# Altium integrated library Linear Technology Operational Amplifiers (LT1000).IntLib: 2280 symbols (part 43 of 79)
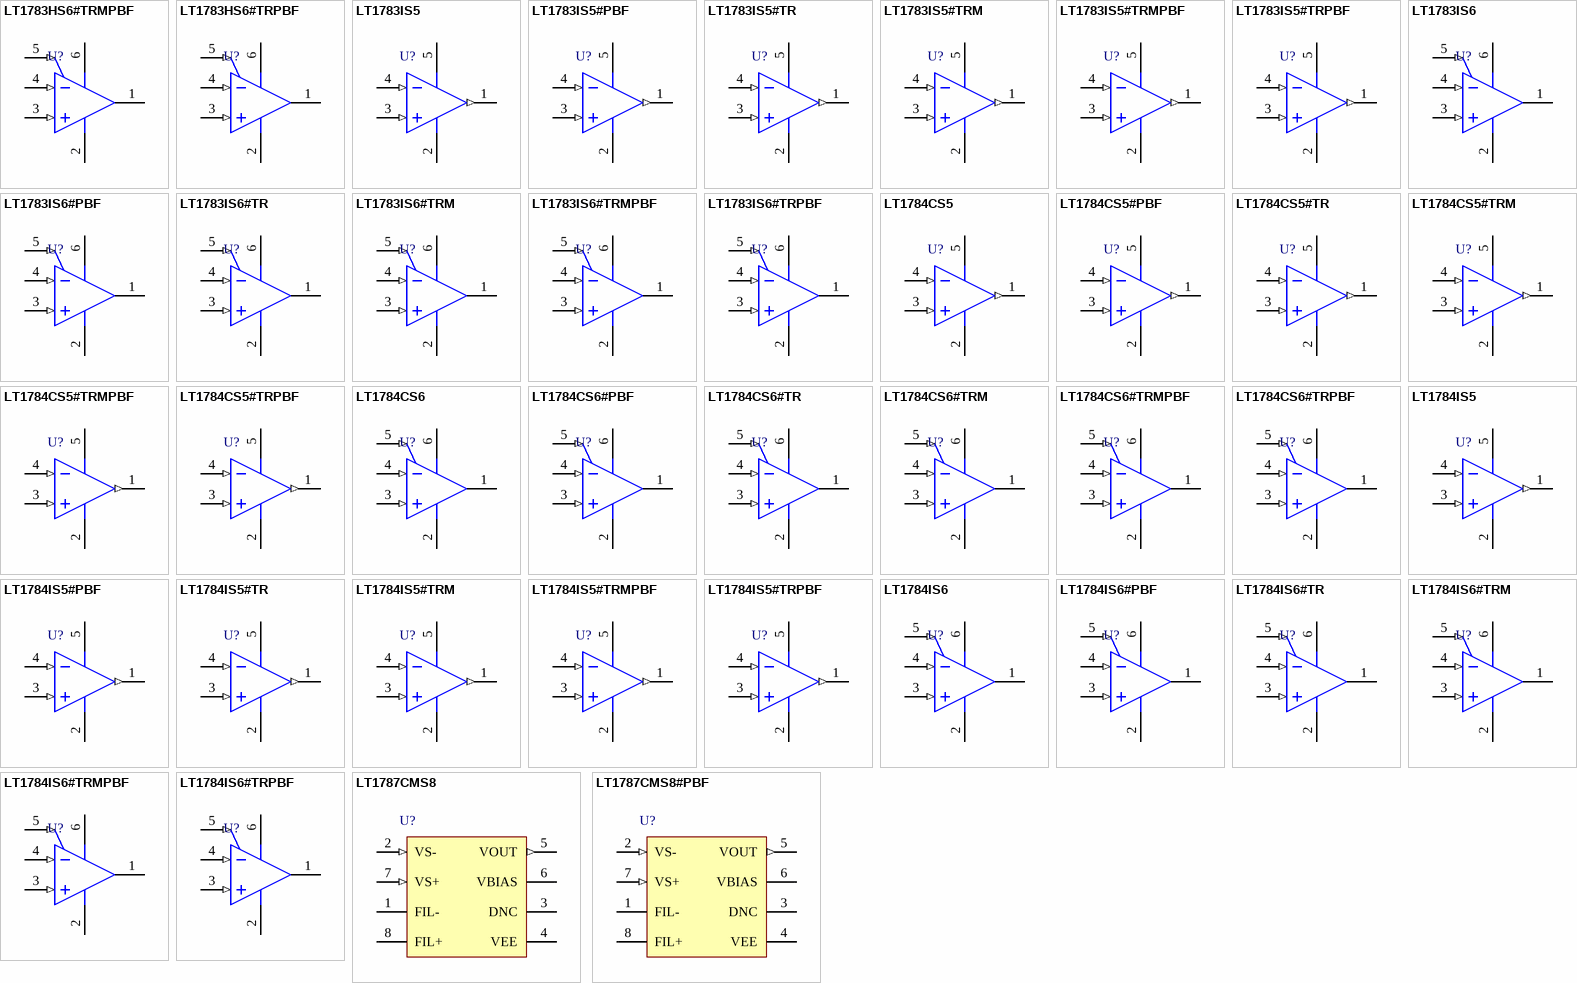
[diagram p147: symbols LT1783HS6#TRMPBF to LT1787CMS8#PBF]

## LT1784IS5#TRM
designator U?
Single Channel, Low Power Operational Amplifier with Shutdown, RRIO, 2.5 MHz Typical GBW, 2.1 V/us Typical SR, 2 to 18 V, 5-Pin SOT23 (S5-5), Industrial, Mini Reel; Linear Technology Part Number: LT1784; Manufacturer: Linear Technology; PartNumber: LT1784IS5#TRM; Channels (#): 1; GBW (MHz) Typical: 2.5; Is (mA) Typical: 0.5; SR (V/us) Typical: 2.1; Vos (mV) Guaranteed: 3.5; Vos (mV) Typical: 1.5; Vs Max (V): 18; Vs Min (V): 2; DatasheetVersion: Rev. A; PackageReference: LT-S5-5-TSOT-23; PackageDescription: 5-Lead Plastic TSOT-23, Body 1.63 x 2.90 mm, Pitch 0.95 mm; Supplier 1: Digi-Key; Supplier Part Number 1: LT1784IS5#TRM-ND; Packing: Mini Reel; Type: VFB; Mounting Technology: Surface Mount; Code_JEDEC: MO-193; ComponentLink1Description: Manufacturer URL; ComponentLink1URL: http://www.linear.com/; ComponentLink2Description: Datasheet; ComponentLink2URL: http://cds.linear.com/docs/en/datasheet/1784fa.pdf; ComponentLink3Description: Package Specification; ComponentLink3URL: http://cds.linear.com/docs/en/packaging/SOT_5_05-08-1635.pdf
footprint LT-S5-5-TSOT-23_N (SOT23, 5-Leads, Body 2.90x1.63mm, Pitch 0.95mm, IPC Medium Density)
footprint LT-S5-5-TSOT-23_L (SOT23, 5-Leads, Body 2.90x1.63mm, Pitch 0.95mm, IPC High Density)
footprint LT-S5-5-TSOT-23_M (SOT23, 5-Leads, Body 2.90x1.63mm, Pitch 0.95mm, IPC Low Density)
pins: 1 OUT (out), 2 V- (power), 3 +IN (in), 4 -IN (in), 5 V+ (power)

## LT1784IS5#TRMPBF
designator U?
Single Channel, Low Power Operational Amplifier with Shutdown, RRIO, 2.5 MHz Typical GBW, 2.1 V/us Typical SR, 2 to 18 V, 5-Pin SOT23 (S5-5), Industrial, Pb-Free, Mini Reel; Linear Technology Part Number: LT1784; Manufacturer: Linear Technology; PartNumber: LT1784IS5#TRMPBF; Channels (#): 1; GBW (MHz) Typical: 2.5; Is (mA) Typical: 0.5; SR (V/us) Typical: 2.1; Vos (mV) Guaranteed: 3.5; Vos (mV) Typical: 1.5; Vs Max (V): 18; Vs Min (V): 2; DatasheetVersion: Rev. A; PackageReference: LT-S5-5-TSOT-23; PackageDescription: 5-Lead Plastic TSOT-23, Body 1.63 x 2.90 mm, Pitch 0.95 mm; Supplier 1: Digi-Key; Supplier Part Number 1: LT1784IS5#TRMPBF-ND; Supplier 2: Newark; Supplier Part Number 2: 57M6396; Packing: Mini Reel; RoHS: Pb-Free; Type: VFB; Mounting Technology: Surface Mount; Code_JEDEC: MO-193; ComponentLink1Description: Manufacturer URL; ComponentLink1URL: http://www.linear.com/; ComponentLink2Description: Datasheet; ComponentLink2URL: http://cds.linear.com/docs/en/datasheet/1784fa.pdf; ComponentLink3Description: Package Specification; ComponentLink3URL: http://cds.linear.com/docs/en/packaging/SOT_5_05-08-1635.pdf
footprint LT-S5-5-TSOT-23_N (SOT23, 5-Leads, Body 2.90x1.63mm, Pitch 0.95mm, IPC Medium Density)
footprint LT-S5-5-TSOT-23_L (SOT23, 5-Leads, Body 2.90x1.63mm, Pitch 0.95mm, IPC High Density)
footprint LT-S5-5-TSOT-23_M (SOT23, 5-Leads, Body 2.90x1.63mm, Pitch 0.95mm, IPC Low Density)
pins: 1 OUT (out), 2 V- (power), 3 +IN (in), 4 -IN (in), 5 V+ (power)

## LT1784IS5#TRPBF
designator U?
Single Channel, Low Power Operational Amplifier with Shutdown, RRIO, 2.5 MHz Typical GBW, 2.1 V/us Typical SR, 2 to 18 V, 5-Pin SOT23 (S5-5), Industrial, Pb-Free, Reel; Linear Technology Part Number: LT1784; Manufacturer: Linear Technology; PartNumber: LT1784IS5#TRPBF; Channels (#): 1; GBW (MHz) Typical: 2.5; Is (mA) Typical: 0.5; SR (V/us) Typical: 2.1; Vos (mV) Guaranteed: 3.5; Vos (mV) Typical: 1.5; Vs Max (V): 18; Vs Min (V): 2; DatasheetVersion: Rev. A; PackageReference: LT-S5-5-TSOT-23; PackageDescription: 5-Lead Plastic TSOT-23, Body 1.63 x 2.90 mm, Pitch 0.95 mm; Supplier 1: Digi-Key; Supplier Part Number 1: LT1784IS5#TRPBF-ND; Supplier 2: Newark; Supplier Part Number 2: 57M6397; Packing: Reel; RoHS: Pb-Free; Type: VFB; Mounting Technology: Surface Mount; Code_JEDEC: MO-193; ComponentLink1Description: Manufacturer URL; ComponentLink1URL: http://www.linear.com/; ComponentLink2Description: Datasheet; ComponentLink2URL: http://cds.linear.com/docs/en/datasheet/1784fa.pdf; ComponentLink3Description: Package Specification; ComponentLink3URL: http://cds.linear.com/docs/en/packaging/SOT_5_05-08-1635.pdf
footprint LT-S5-5-TSOT-23_N (SOT23, 5-Leads, Body 2.90x1.63mm, Pitch 0.95mm, IPC Medium Density)
footprint LT-S5-5-TSOT-23_L (SOT23, 5-Leads, Body 2.90x1.63mm, Pitch 0.95mm, IPC High Density)
footprint LT-S5-5-TSOT-23_M (SOT23, 5-Leads, Body 2.90x1.63mm, Pitch 0.95mm, IPC Low Density)
pins: 1 OUT (out), 2 V- (power), 3 +IN (in), 4 -IN (in), 5 V+ (power)

## LT1784IS6
designator U?
Single Channel, Low Power Operational Amplifier with Shutdown, RRIO, 2.5 MHz Typical GBW, 2.1 V/us Typical SR, 2 to 18 V, 6-Pin SOT23 (S6-6), Industrial; Linear Technology Part Number: LT1784; Manufacturer: Linear Technology; PartNumber: LT1784IS6; Channels (#): 1; GBW (MHz) Typical: 2.5; Is (mA) Typical: 0.5; SR (V/us) Typical: 2.1; Vos (mV) Guaranteed: 3.5; Vos (mV) Typical: 1.5; Vs Max (V): 18; Vs Min (V): 2; DatasheetVersion: Rev. A; PackageReference: LT-S6-6-TSOT-23; PackageDescription: 6-Pin Plastic TSOT-23, Body 2.9 x 1.63 mm, Pitch 0.95 mm; Type: VFB; Mounting Technology: Surface Mount; Code_JEDEC: MO-193; ComponentLink1Description: Manufacturer URL; ComponentLink1URL: http://www.linear.com/; ComponentLink2Description: Datasheet; ComponentLink2URL: http://cds.linear.com/docs/en/datasheet/1784fa.pdf; ComponentLink3Description: Package Specification; ComponentLink3URL: http://cds.linear.com/docs/en/packaging/SOT_6_05-08-1636.pdf
footprint LT-S6-6-TSOT-23_N (SOT23, 6-Leads, Body 2.90x1.63mm, Pitch 0.95mm, IPC Medium Density)
footprint LT-S6-6-TSOT-23_L (SOT23, 6-Leads, Body 2.90x1.63mm, Pitch 0.95mm, IPC High Density)
footprint LT-S6-6-TSOT-23_M (SOT23, 6-Leads, Body 2.90x1.63mm, Pitch 0.95mm, IPC Low Density)
pins: 1 OUT (hiz), 2 V- (power), 3 +IN (in), 4 -IN (in), 5 SHDN (in), 6 V+ (power)

## LT1784IS6#PBF
designator U?
Single Channel, Low Power Operational Amplifier with Shutdown, RRIO, 2.5 MHz Typical GBW, 2.1 V/us Typical SR, 2 to 18 V, 6-Pin SOT23 (S6-6), Industrial, Pb-Free; Linear Technology Part Number: LT1784; Manufacturer: Linear Technology; PartNumber: LT1784IS6#PBF; Channels (#): 1; GBW (MHz) Typical: 2.5; Is (mA) Typical: 0.5; SR (V/us) Typical: 2.1; Vos (mV) Guaranteed: 3.5; Vos (mV) Typical: 1.5; Vs Max (V): 18; Vs Min (V): 2; DatasheetVersion: Rev. A; PackageReference: LT-S6-6-TSOT-23; PackageDescription: 6-Pin Plastic TSOT-23, Body 2.9 x 1.63 mm, Pitch 0.95 mm; RoHS: Pb-Free; Type: VFB; Mounting Technology: Surface Mount; Code_JEDEC: MO-193; ComponentLink1Description: Manufacturer URL; ComponentLink1URL: http://www.linear.com/; ComponentLink2Description: Datasheet; ComponentLink2URL: http://cds.linear.com/docs/en/datasheet/1784fa.pdf; ComponentLink3Description: Package Specification; ComponentLink3URL: http://cds.linear.com/docs/en/packaging/SOT_6_05-08-1636.pdf
footprint LT-S6-6-TSOT-23_N (SOT23, 6-Leads, Body 2.90x1.63mm, Pitch 0.95mm, IPC Medium Density)
footprint LT-S6-6-TSOT-23_L (SOT23, 6-Leads, Body 2.90x1.63mm, Pitch 0.95mm, IPC High Density)
footprint LT-S6-6-TSOT-23_M (SOT23, 6-Leads, Body 2.90x1.63mm, Pitch 0.95mm, IPC Low Density)
pins: 1 OUT (hiz), 2 V- (power), 3 +IN (in), 4 -IN (in), 5 SHDN (in), 6 V+ (power)

## LT1784IS6#TR
designator U?
Single Channel, Low Power Operational Amplifier with Shutdown, RRIO, 2.5 MHz Typical GBW, 2.1 V/us Typical SR, 2 to 18 V, 6-Pin SOT23 (S6-6), Industrial, Reel; Linear Technology Part Number: LT1784; Manufacturer: Linear Technology; PartNumber: LT1784IS6#TR; Channels (#): 1; GBW (MHz) Typical: 2.5; Is (mA) Typical: 0.5; SR (V/us) Typical: 2.1; Vos (mV) Guaranteed: 3.5; Vos (mV) Typical: 1.5; Vs Max (V): 18; Vs Min (V): 2; DatasheetVersion: Rev. A; PackageReference: LT-S6-6-TSOT-23; PackageDescription: 6-Pin Plastic TSOT-23, Body 2.9 x 1.63 mm, Pitch 0.95 mm; Supplier 1: Digi-Key; Supplier Part Number 1: LT1784IS6#TR-ND; Packing: Reel; Type: VFB; Mounting Technology: Surface Mount; Code_JEDEC: MO-193; ComponentLink1Description: Manufacturer URL; ComponentLink1URL: http://www.linear.com/; ComponentLink2Description: Datasheet; ComponentLink2URL: http://cds.linear.com/docs/en/datasheet/1784fa.pdf; ComponentLink3Description: Package Specification; ComponentLink3URL: http://cds.linear.com/docs/en/packaging/SOT_6_05-08-1636.pdf
footprint LT-S6-6-TSOT-23_N (SOT23, 6-Leads, Body 2.90x1.63mm, Pitch 0.95mm, IPC Medium Density)
footprint LT-S6-6-TSOT-23_L (SOT23, 6-Leads, Body 2.90x1.63mm, Pitch 0.95mm, IPC High Density)
footprint LT-S6-6-TSOT-23_M (SOT23, 6-Leads, Body 2.90x1.63mm, Pitch 0.95mm, IPC Low Density)
pins: 1 OUT (hiz), 2 V- (power), 3 +IN (in), 4 -IN (in), 5 SHDN (in), 6 V+ (power)

## LT1784IS6#TRM
designator U?
Single Channel, Low Power Operational Amplifier with Shutdown, RRIO, 2.5 MHz Typical GBW, 2.1 V/us Typical SR, 2 to 18 V, 6-Pin SOT23 (S6-6), Industrial, Mini Reel; Linear Technology Part Number: LT1784; Manufacturer: Linear Technology; PartNumber: LT1784IS6#TRM; Channels (#): 1; GBW (MHz) Typical: 2.5; Is (mA) Typical: 0.5; SR (V/us) Typical: 2.1; Vos (mV) Guaranteed: 3.5; Vos (mV) Typical: 1.5; Vs Max (V): 18; Vs Min (V): 2; DatasheetVersion: Rev. A; PackageReference: LT-S6-6-TSOT-23; PackageDescription: 6-Pin Plastic TSOT-23, Body 2.9 x 1.63 mm, Pitch 0.95 mm; Supplier 1: Digi-Key; Supplier Part Number 1: LT1784IS6#TRM-ND; Packing: Mini Reel; Type: VFB; Mounting Technology: Surface Mount; Code_JEDEC: MO-193; ComponentLink1Description: Manufacturer URL; ComponentLink1URL: http://www.linear.com/; ComponentLink2Description: Datasheet; ComponentLink2URL: http://cds.linear.com/docs/en/datasheet/1784fa.pdf; ComponentLink3Description: Package Specification; ComponentLink3URL: http://cds.linear.com/docs/en/packaging/SOT_6_05-08-1636.pdf
footprint LT-S6-6-TSOT-23_N (SOT23, 6-Leads, Body 2.90x1.63mm, Pitch 0.95mm, IPC Medium Density)
footprint LT-S6-6-TSOT-23_L (SOT23, 6-Leads, Body 2.90x1.63mm, Pitch 0.95mm, IPC High Density)
footprint LT-S6-6-TSOT-23_M (SOT23, 6-Leads, Body 2.90x1.63mm, Pitch 0.95mm, IPC Low Density)
pins: 1 OUT (hiz), 2 V- (power), 3 +IN (in), 4 -IN (in), 5 SHDN (in), 6 V+ (power)

## LT1784IS6#TRMPBF
designator U?
Single Channel, Low Power Operational Amplifier with Shutdown, RRIO, 2.5 MHz Typical GBW, 2.1 V/us Typical SR, 2 to 18 V, 6-Pin SOT23 (S6-6), Industrial, Pb-Free, Mini Reel; Linear Technology Part Number: LT1784; Manufacturer: Linear Technology; PartNumber: LT1784IS6#TRMPBF; Channels (#): 1; GBW (MHz) Typical: 2.5; Is (mA) Typical: 0.5; SR (V/us) Typical: 2.1; Vos (mV) Guaranteed: 3.5; Vos (mV) Typical: 1.5; Vs Max (V): 18; Vs Min (V): 2; DatasheetVersion: Rev. A; PackageReference: LT-S6-6-TSOT-23; PackageDescription: 6-Pin Plastic TSOT-23, Body 2.9 x 1.63 mm, Pitch 0.95 mm; Supplier 1: Digi-Key; Supplier Part Number 1: LT1784IS6#TRMPBF-ND; Packing: Mini Reel; RoHS: Pb-Free; Type: VFB; Mounting Technology: Surface Mount; Code_JEDEC: MO-193; ComponentLink1Description: Manufacturer URL; ComponentLink1URL: http://www.linear.com/; ComponentLink2Description: Datasheet; ComponentLink2URL: http://cds.linear.com/docs/en/datasheet/1784fa.pdf; ComponentLink3Description: Package Specification; ComponentLink3URL: http://cds.linear.com/docs/en/packaging/SOT_6_05-08-1636.pdf
footprint LT-S6-6-TSOT-23_N (SOT23, 6-Leads, Body 2.90x1.63mm, Pitch 0.95mm, IPC Medium Density)
footprint LT-S6-6-TSOT-23_L (SOT23, 6-Leads, Body 2.90x1.63mm, Pitch 0.95mm, IPC High Density)
footprint LT-S6-6-TSOT-23_M (SOT23, 6-Leads, Body 2.90x1.63mm, Pitch 0.95mm, IPC Low Density)
pins: 1 OUT (hiz), 2 V- (power), 3 +IN (in), 4 -IN (in), 5 SHDN (in), 6 V+ (power)

## LT1784IS6#TRPBF
designator U?
Single Channel, Low Power Operational Amplifier with Shutdown, RRIO, 2.5 MHz Typical GBW, 2.1 V/us Typical SR, 2 to 18 V, 6-Pin SOT23 (S6-6), Industrial, Pb-Free, Reel; Linear Technology Part Number: LT1784; Manufacturer: Linear Technology; PartNumber: LT1784IS6#TRPBF; Channels (#): 1; GBW (MHz) Typical: 2.5; Is (mA) Typical: 0.5; SR (V/us) Typical: 2.1; Vos (mV) Guaranteed: 3.5; Vos (mV) Typical: 1.5; Vs Max (V): 18; Vs Min (V): 2; DatasheetVersion: Rev. A; PackageReference: LT-S6-6-TSOT-23; PackageDescription: 6-Pin Plastic TSOT-23, Body 2.9 x 1.63 mm, Pitch 0.95 mm; Supplier 1: Digi-Key; Supplier Part Number 1: LT1784IS6#TRPBF-ND; Packing: Reel; RoHS: Pb-Free; Type: VFB; Mounting Technology: Surface Mount; Code_JEDEC: MO-193; ComponentLink1Description: Manufacturer URL; ComponentLink1URL: http://www.linear.com/; ComponentLink2Description: Datasheet; ComponentLink2URL: http://cds.linear.com/docs/en/datasheet/1784fa.pdf; ComponentLink3Description: Package Specification; ComponentLink3URL: http://cds.linear.com/docs/en/packaging/SOT_6_05-08-1636.pdf
footprint LT-S6-6-TSOT-23_N (SOT23, 6-Leads, Body 2.90x1.63mm, Pitch 0.95mm, IPC Medium Density)
footprint LT-S6-6-TSOT-23_L (SOT23, 6-Leads, Body 2.90x1.63mm, Pitch 0.95mm, IPC High Density)
footprint LT-S6-6-TSOT-23_M (SOT23, 6-Leads, Body 2.90x1.63mm, Pitch 0.95mm, IPC Low Density)
pins: 1 OUT (hiz), 2 V- (power), 3 +IN (in), 4 -IN (in), 5 SHDN (in), 6 V+ (power)

## LT1787CMS8
designator U?
Single Channel, Precision, High Side Current Sense Amplifier, 0.115 MHz Typical GBW, 2.5 to 36 V, 8-pin SOP (MS8-8), Commercial; Linear Technology Part Number: LT1787; Manufacturer: Linear Technology; PartNumber: LT1787CMS8; Channels (#): 1; GBW (MHz) Typical: 0.115; Is (mA) Typical: 0.06; Vos (mV) Guaranteed: 0.075; Vos (mV) Typical: 0.04; Vs Max (V): 36; Vs Min (V): 2.5; DatasheetVersion: Rev. C; PackageVersion: Rev G; PackageReference: LT-MS8-8; PackageDescription: 8-Lead Plastic Small Outline, Body 3.9 x 4.9 mm, Pitch 1.27 mm; Supplier 1: Digi-Key; Supplier Part Number 1: LT1787CMS8-ND; Type: CSA; Mounting Technology: Surface Mount; ComponentLink1Description: Manufacturer URL; ComponentLink1URL: http://www.linear.com/; ComponentLink2Description: Datasheet; ComponentLink2URL: http://cds.linear.com/docs/en/datasheet/1787fc.pdf; ComponentLink3Description: Package Specification; ComponentLink3URL: http://cds.linear.com/docs/en/packaging/05081610_G_SO8.pdf
footprint LT-MS8-8_N (SOP, 8-Leads, Body 3x3mm, Pitch 0.65mm, IPC Medium Density)
footprint LT-MS8-8_L (SOP, 8-Leads, Body 3x3mm, Pitch 0.65mm, IPC High Density)
footprint LT-MS8-8_M (SOP, 8-Leads, Body 3x3mm, Pitch 0.65mm, IPC Low Density)
pins: 1 FIL- "Negative and Positive Filter Terminals. Differential mode noise can be filtered by connecting a capacitor across FIL- and FIL+. Pole frequency f_3dB = 1/(2pRC), R = 1.25k ohm.", 2 VS- (in) "Negative Input Sense Terminal. Negative sense voltage will result in an output sinking current proportional to the sense current. VS- is connected to an internal gain-setting resistor RG1A and supplies bias current to the (See Datasheet)", 3 DNC "Do Not Connect. Connected internally. Do not connect external circuitry to this pin.", 4 VEE (power) "Negative Supply or Ground for Single Supply Operation.", 5 VOUT (out) "Voltage Output or Current Output proportional to the magnitude of the sense current flowing through RSENSE. For bidirectional current sensing operation, VOUT = AV * VSENSE + VOUT(O) + VBIAS,where: VOUT > VBIAS for VS + > VS- (See Datasheet)", 6 VBIAS "Output Bias Pin. For single supply, bidirectional current sensing operation, VBIAS is connected to an external bias voltage, so that at VSENSE = 0V, VOUT = VOUT(O) + VBIAS. For dual supply, bidirectional current sensing (See Datasheet)", 7 VS+ (in) "Positive Input Sense Terminal. Positive sense voltage will result in an output sourcing current proportional to the sense current. VS + is connected to an internal gain-setting resistor RG2A. Connecting a supply to VS + and (See Datasheet)", 8 FIL+ "Negative and Positive Filter Terminals. Differential mode noise can be filtered by connecting a capacitor across FIL- and FIL+. Pole frequency f_3dB = 1/(2pRC), R = 1.25k ohm."

## LT1787CMS8#PBF
designator U?
Single Channel, Precision, High Side Current Sense Amplifier, 0.115 MHz Typical GBW, 2.5 to 36 V, 8-pin SOP (MS8-8), Commercial, Pb-Free; Linear Technology Part Number: LT1787; Manufacturer: Linear Technology; PartNumber: LT1787CMS8#PBF; Channels (#): 1; GBW (MHz) Typical: 0.115; Is (mA) Typical: 0.06; Vos (mV) Guaranteed: 0.075; Vos (mV) Typical: 0.04; Vs Max (V): 36; Vs Min (V): 2.5; DatasheetVersion: Rev. C; PackageVersion: Rev G; PackageReference: LT-MS8-8; PackageDescription: 8-Lead Plastic Small Outline, Body 3.9 x 4.9 mm, Pitch 1.27 mm; Supplier 1: Digi-Key; Supplier Part Number 1: LT1787CMS8#PBF-ND; Supplier 2: Farnell; Supplier Part Number 2: 1330696; Supplier 3: Newark; Supplier Part Number 3: 57M6431; RoHS: Pb-Free; Type: CSA; Mounting Technology: Surface Mount; ComponentLink1Description: Manufacturer URL; ComponentLink1URL: http://www.linear.com/; ComponentLink2Description: Datasheet; ComponentLink2URL: http://cds.linear.com/docs/en/datasheet/1787fc.pdf; ComponentLink3Description: Package Specification; ComponentLink3URL: http://cds.linear.com/docs/en/packaging/05081610_G_SO8.pdf
footprint LT-MS8-8_N (SOP, 8-Leads, Body 3x3mm, Pitch 0.65mm, IPC Medium Density)
footprint LT-MS8-8_L (SOP, 8-Leads, Body 3x3mm, Pitch 0.65mm, IPC High Density)
footprint LT-MS8-8_M (SOP, 8-Leads, Body 3x3mm, Pitch 0.65mm, IPC Low Density)
pins: 1 FIL- "Negative and Positive Filter Terminals. Differential mode noise can be filtered by connecting a capacitor across FIL- and FIL+. Pole frequency f_3dB = 1/(2pRC), R = 1.25k ohm.", 2 VS- (in) "Negative Input Sense Terminal. Negative sense voltage will result in an output sinking current proportional to the sense current. VS- is connected to an internal gain-setting resistor RG1A and supplies bias current to the (See Datasheet)", 3 DNC "Do Not Connect. Connected internally. Do not connect external circuitry to this pin.", 4 VEE (power) "Negative Supply or Ground for Single Supply Operation.", 5 VOUT (out) "Voltage Output or Current Output proportional to the magnitude of the sense current flowing through RSENSE. For bidirectional current sensing operation, VOUT = AV * VSENSE + VOUT(O) + VBIAS,where: VOUT > VBIAS for VS + > VS- (See Datasheet)", 6 VBIAS "Output Bias Pin. For single supply, bidirectional current sensing operation, VBIAS is connected to an external bias voltage, so that at VSENSE = 0V, VOUT = VOUT(O) + VBIAS. For dual supply, bidirectional current sensing (See Datasheet)", 7 VS+ (in) "Positive Input Sense Terminal. Positive sense voltage will result in an output sourcing current proportional to the sense current. VS + is connected to an internal gain-setting resistor RG2A. Connecting a supply to VS + and (See Datasheet)", 8 FIL+ "Negative and Positive Filter Terminals. Differential mode noise can be filtered by connecting a capacitor across FIL- and FIL+. Pole frequency f_3dB = 1/(2pRC), R = 1.25k ohm."

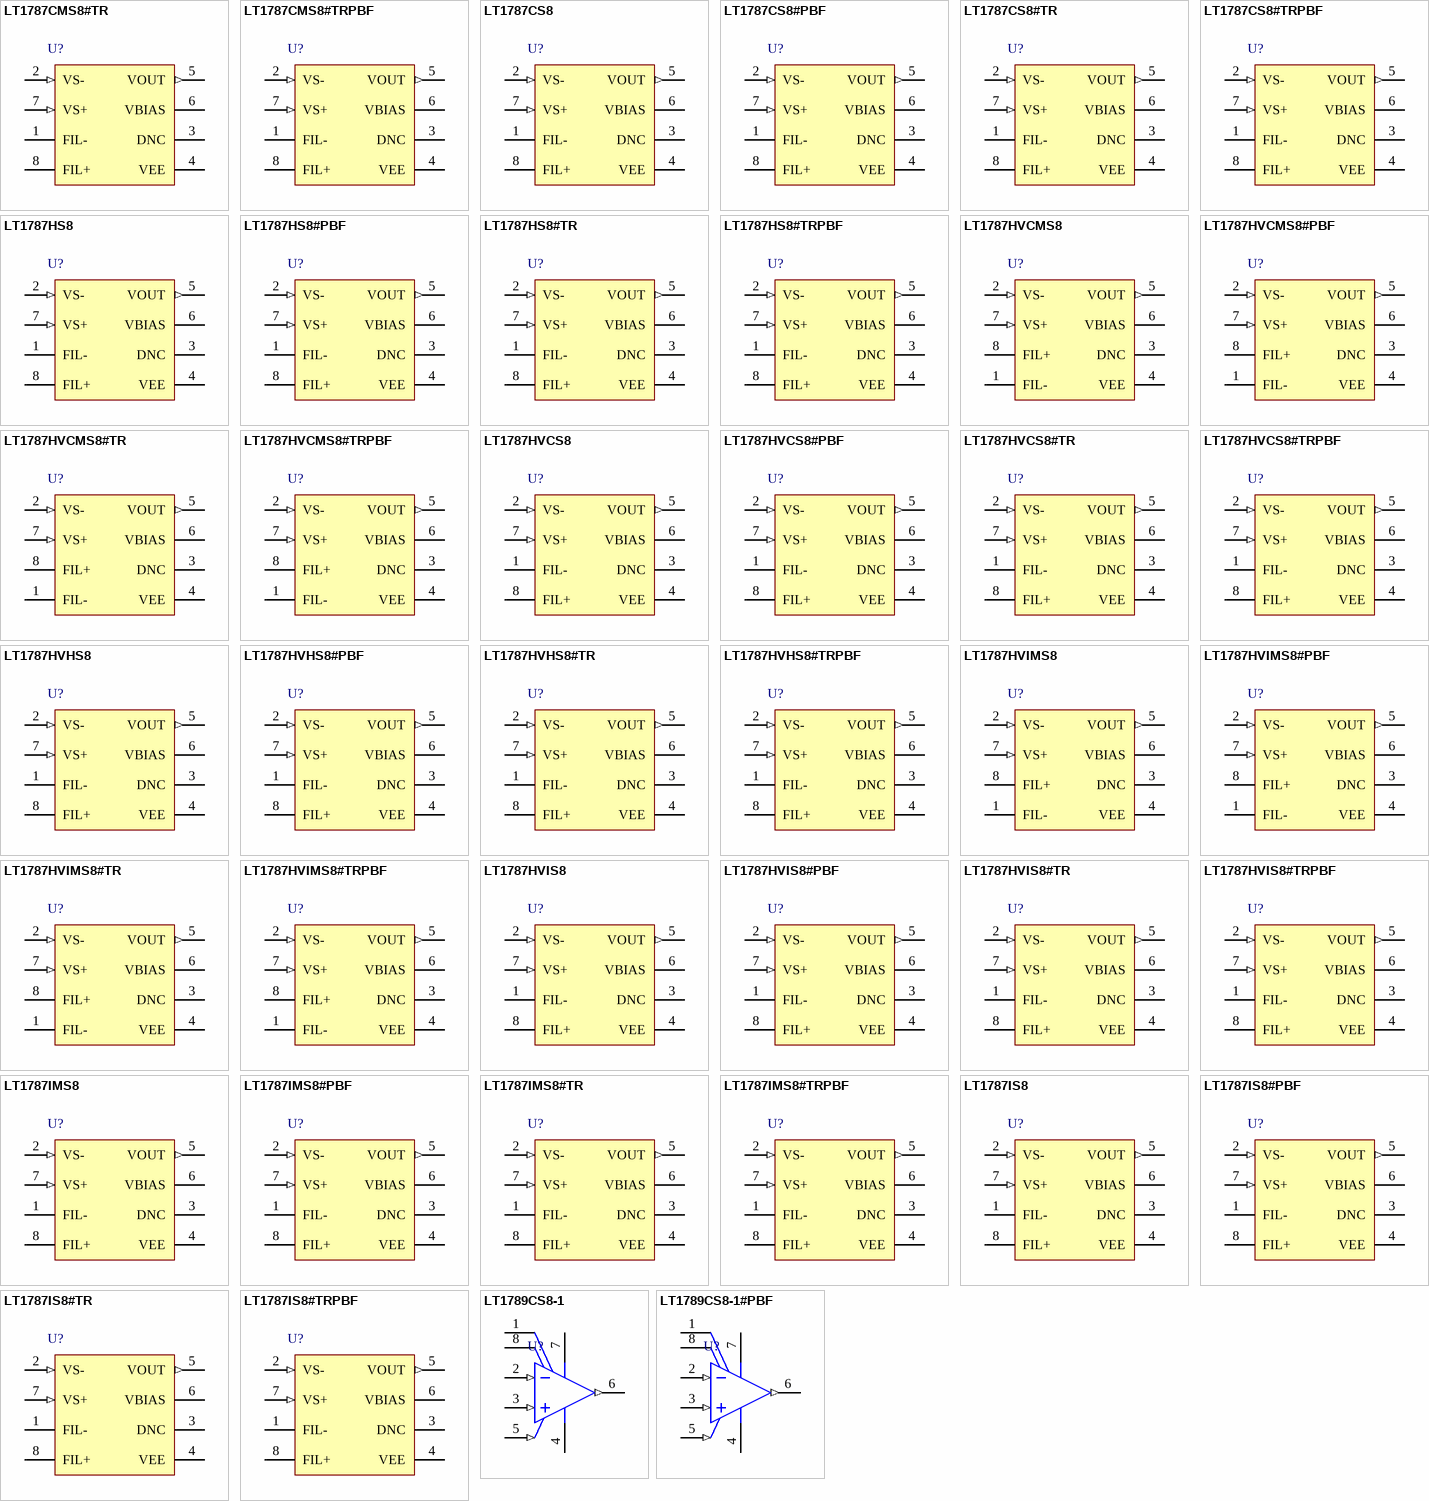
[diagram p71: symbols LT1787CMS8#TR to LT1789CS8-1#PBF]

## LT1787CMS8#TR
designator U?
Single Channel, Precision, High Side Current Sense Amplifier, 0.115 MHz Typical GBW, 2.5 to 36 V, 8-pin SOP (MS8-8), Commercial, Reel; Linear Technology Part Number: LT1787; Manufacturer: Linear Technology; PartNumber: LT1787CMS8#TR; Channels (#): 1; GBW (MHz) Typical: 0.115; Is (mA) Typical: 0.06; Vos (mV) Guaranteed: 0.075; Vos (mV) Typical: 0.04; Vs Max (V): 36; Vs Min (V): 2.5; DatasheetVersion: Rev. C; PackageVersion: Rev G; PackageReference: LT-MS8-8; PackageDescription: 8-Lead Plastic Small Outline, Body 3.9 x 4.9 mm, Pitch 1.27 mm; Supplier 1: Digi-Key; Supplier Part Number 1: LT1787CMS8#TR-ND; Packing: Reel; Type: CSA; Mounting Technology: Surface Mount; ComponentLink1Description: Manufacturer URL; ComponentLink1URL: http://www.linear.com/; ComponentLink2Description: Datasheet; ComponentLink2URL: http://cds.linear.com/docs/en/datasheet/1787fc.pdf; ComponentLink3Description: Package Specification; ComponentLink3URL: http://cds.linear.com/docs/en/packaging/05081610_G_SO8.pdf
footprint LT-MS8-8_N (SOP, 8-Leads, Body 3x3mm, Pitch 0.65mm, IPC Medium Density)
footprint LT-MS8-8_L (SOP, 8-Leads, Body 3x3mm, Pitch 0.65mm, IPC High Density)
footprint LT-MS8-8_M (SOP, 8-Leads, Body 3x3mm, Pitch 0.65mm, IPC Low Density)
pins: 1 FIL- "Negative and Positive Filter Terminals. Differential mode noise can be filtered by connecting a capacitor across FIL- and FIL+. Pole frequency f_3dB = 1/(2pRC), R = 1.25k ohm.", 2 VS- (in) "Negative Input Sense Terminal. Negative sense voltage will result in an output sinking current proportional to the sense current. VS- is connected to an internal gain-setting resistor RG1A and supplies bias current to the (See Datasheet)", 3 DNC "Do Not Connect. Connected internally. Do not connect external circuitry to this pin.", 4 VEE (power) "Negative Supply or Ground for Single Supply Operation.", 5 VOUT (out) "Voltage Output or Current Output proportional to the magnitude of the sense current flowing through RSENSE. For bidirectional current sensing operation, VOUT = AV * VSENSE + VOUT(O) + VBIAS,where: VOUT > VBIAS for VS + > VS- (See Datasheet)", 6 VBIAS "Output Bias Pin. For single supply, bidirectional current sensing operation, VBIAS is connected to an external bias voltage, so that at VSENSE = 0V, VOUT = VOUT(O) + VBIAS. For dual supply, bidirectional current sensing (See Datasheet)", 7 VS+ (in) "Positive Input Sense Terminal. Positive sense voltage will result in an output sourcing current proportional to the sense current. VS + is connected to an internal gain-setting resistor RG2A. Connecting a supply to VS + and (See Datasheet)", 8 FIL+ "Negative and Positive Filter Terminals. Differential mode noise can be filtered by connecting a capacitor across FIL- and FIL+. Pole frequency f_3dB = 1/(2pRC), R = 1.25k ohm."

## LT1787CMS8#TRPBF
designator U?
Single Channel, Precision, High Side Current Sense Amplifier, 0.115 MHz Typical GBW, 2.5 to 36 V, 8-pin SOP (MS8-8), Commercial, Pb-Free, Reel; Linear Technology Part Number: LT1787; Manufacturer: Linear Technology; PartNumber: LT1787CMS8#TRPBF; Channels (#): 1; GBW (MHz) Typical: 0.115; Is (mA) Typical: 0.06; Vos (mV) Guaranteed: 0.075; Vos (mV) Typical: 0.04; Vs Max (V): 36; Vs Min (V): 2.5; DatasheetVersion: Rev. C; PackageVersion: Rev G; PackageReference: LT-MS8-8; PackageDescription: 8-Lead Plastic Small Outline, Body 3.9 x 4.9 mm, Pitch 1.27 mm; Supplier 1: Digi-Key; Supplier Part Number 1: LT1787CMS8#TRPBF-ND; Supplier 2: Newark; Supplier Part Number 2: 57M6433; Packing: Reel; RoHS: Pb-Free; Type: CSA; Mounting Technology: Surface Mount; ComponentLink1Description: Manufacturer URL; ComponentLink1URL: http://www.linear.com/; ComponentLink2Description: Datasheet; ComponentLink2URL: http://cds.linear.com/docs/en/datasheet/1787fc.pdf; ComponentLink3Description: Package Specification; ComponentLink3URL: http://cds.linear.com/docs/en/packaging/05081610_G_SO8.pdf
footprint LT-MS8-8_N (SOP, 8-Leads, Body 3x3mm, Pitch 0.65mm, IPC Medium Density)
footprint LT-MS8-8_L (SOP, 8-Leads, Body 3x3mm, Pitch 0.65mm, IPC High Density)
footprint LT-MS8-8_M (SOP, 8-Leads, Body 3x3mm, Pitch 0.65mm, IPC Low Density)
pins: 1 FIL- "Negative and Positive Filter Terminals. Differential mode noise can be filtered by connecting a capacitor across FIL- and FIL+. Pole frequency f_3dB = 1/(2pRC), R = 1.25k ohm.", 2 VS- (in) "Negative Input Sense Terminal. Negative sense voltage will result in an output sinking current proportional to the sense current. VS- is connected to an internal gain-setting resistor RG1A and supplies bias current to the (See Datasheet)", 3 DNC "Do Not Connect. Connected internally. Do not connect external circuitry to this pin.", 4 VEE (power) "Negative Supply or Ground for Single Supply Operation.", 5 VOUT (out) "Voltage Output or Current Output proportional to the magnitude of the sense current flowing through RSENSE. For bidirectional current sensing operation, VOUT = AV * VSENSE + VOUT(O) + VBIAS,where: VOUT > VBIAS for VS + > VS- (See Datasheet)", 6 VBIAS "Output Bias Pin. For single supply, bidirectional current sensing operation, VBIAS is connected to an external bias voltage, so that at VSENSE = 0V, VOUT = VOUT(O) + VBIAS. For dual supply, bidirectional current sensing (See Datasheet)", 7 VS+ (in) "Positive Input Sense Terminal. Positive sense voltage will result in an output sourcing current proportional to the sense current. VS + is connected to an internal gain-setting resistor RG2A. Connecting a supply to VS + and (See Datasheet)", 8 FIL+ "Negative and Positive Filter Terminals. Differential mode noise can be filtered by connecting a capacitor across FIL- and FIL+. Pole frequency f_3dB = 1/(2pRC), R = 1.25k ohm."

## LT1787CS8
designator U?
Single Channel, Precision High Side Current Sense Amplifier, 0.115 MHz Typical GBW, 2.5 to 36 V, 8-Pin SOIC (S8-8), Commercial; Linear Technology Part Number: LT1787; Manufacturer: Linear Technology; PartNumber: LT1787CS8; Channels (#): 1; GBW (MHz) Typical: 0.115; Is (mA) Typical: 0.06; Vos (mV) Guaranteed: 0.075; Vos (mV) Typical: 0.04; Vs Max (V): 36; Vs Min (V): 2.5; DatasheetVersion: Rev. C; PackageVersion: Rev G; PackageReference: LT-S8-8; PackageDescription: 8-Pin Plastic Small Outline, Body 4.9 x 3.9 mm, Pitch 1.27 mm; Supplier 1: Digi-Key; Supplier Part Number 1: LT1787CS8-ND; Type: CSA; Mounting Technology: Surface Mount; ComponentLink1Description: Manufacturer URL; ComponentLink1URL: http://www.linear.com/; ComponentLink2Description: Datasheet; ComponentLink2URL: http://cds.linear.com/docs/en/datasheet/1787fc.pdf; ComponentLink3Description: Package Specification; ComponentLink3URL: http://cds.linear.com/docs/en/packaging/05081610_G_SO8.pdf
footprint LT-S8-8_N (SOIC, 8-Leads, Body 4.9x3.9mm, Pitch 1.27mm, IPC Medium Density)
footprint LT-S8-8_L (SOIC, 8-Leads, Body 4.9x3.9mm, Pitch 1.27mm, IPC High Density)
footprint LT-S8-8_M (SOIC, 8-Leads, Body 4.9x3.9mm, Pitch 1.27mm, IPC Low Density)
pins: 1 FIL- "Negative and Positive Filter Terminals.Differential mode noise can be filtered by connecting a capacitor across FIL- and FIL+. Pole frequency f-3dB = 1/(2pRC), R = 1.25k ohm.", 2 VS- (in) "Negative Input Sense Terminal. Negative sense voltage will result in an output sinking current proportional to the sense current. VS- is connected to an internal gain-setting resistor RG1A and supplies bias current to the (See Datasheet)", 3 DNC "Do Not Connect. Connected internally. Do not connect external circuitry to this pin.", 4 VEE (power) "Negative Supply or Ground for Single Supply Operation.", 5 VOUT (out) "Voltage Output or Current Output proportional to the magnitude of the sense current flowing through RSENSE. For bidirectional current sensing operation,VOUT = AV • VSENSE + VOUT(O) + VBIAS,where:VOUT > VBIAS for VS+ > VS- (See Datasheet)", 6 VBIAS "Output Bias Pin. For single supply, bidirectional current sensing operation, VBIAS is connected to an external bias voltage, so that at VSENSE = 0V, VOUT = VOUT(O) + VBIAS. For dual supply, bidirectional current sensing (See Datasheet)", 7 VS+ (in) "Positive Input Sense Terminal. Positive sense voltage will result in an output sourcing current proportional to the sense current. VS+ is connected to an internal gain-setting resistor RG2A. Connecting a supply to VS+ and a (See Datasheet)", 8 FIL+ "Negative and Positive Filter Terminals.Differential mode noise can be filtered by connecting a capacitor across FIL- and FIL+. Pole frequency f-3dB = 1/(2pRC), R = 1.25k ohm."

## LT1787CS8#PBF
designator U?
Single Channel, Precision High Side Current Sense Amplifier, 0.115 MHz Typical GBW, 2.5 to 36 V, 8-Pin SOIC (S8-8), Commercial, Pb-Free; Linear Technology Part Number: LT1787; Manufacturer: Linear Technology; PartNumber: LT1787CS8#PBF; Channels (#): 1; GBW (MHz) Typical: 0.115; Is (mA) Typical: 0.06; Vos (mV) Guaranteed: 0.075; Vos (mV) Typical: 0.04; Vs Max (V): 36; Vs Min (V): 2.5; DatasheetVersion: Rev. C; PackageVersion: Rev G; PackageReference: LT-S8-8; PackageDescription: 8-Pin Plastic Small Outline, Body 4.9 x 3.9 mm, Pitch 1.27 mm; Supplier 1: Digi-Key; Supplier Part Number 1: LT1787CS8#PBF-ND; Supplier 2: Farnell; Supplier Part Number 2: 2254819; Supplier 3: Newark; Supplier Part Number 3: 57M6435; RoHS: Pb-Free; Type: CSA; Mounting Technology: Surface Mount; ComponentLink1Description: Manufacturer URL; ComponentLink1URL: http://www.linear.com/; ComponentLink2Description: Datasheet; ComponentLink2URL: http://cds.linear.com/docs/en/datasheet/1787fc.pdf; ComponentLink3Description: Package Specification; ComponentLink3URL: http://cds.linear.com/docs/en/packaging/05081610_G_SO8.pdf
footprint LT-S8-8_N (SOIC, 8-Leads, Body 4.9x3.9mm, Pitch 1.27mm, IPC Medium Density)
footprint LT-S8-8_L (SOIC, 8-Leads, Body 4.9x3.9mm, Pitch 1.27mm, IPC High Density)
footprint LT-S8-8_M (SOIC, 8-Leads, Body 4.9x3.9mm, Pitch 1.27mm, IPC Low Density)
pins: 1 FIL- "Negative and Positive Filter Terminals.Differential mode noise can be filtered by connecting a capacitor across FIL- and FIL+. Pole frequency f-3dB = 1/(2pRC), R = 1.25k ohm.", 2 VS- (in) "Negative Input Sense Terminal. Negative sense voltage will result in an output sinking current proportional to the sense current. VS- is connected to an internal gain-setting resistor RG1A and supplies bias current to the (See Datasheet)", 3 DNC "Do Not Connect. Connected internally. Do not connect external circuitry to this pin.", 4 VEE (power) "Negative Supply or Ground for Single Supply Operation.", 5 VOUT (out) "Voltage Output or Current Output proportional to the magnitude of the sense current flowing through RSENSE. For bidirectional current sensing operation,VOUT = AV • VSENSE + VOUT(O) + VBIAS,where:VOUT > VBIAS for VS+ > VS- (See Datasheet)", 6 VBIAS "Output Bias Pin. For single supply, bidirectional current sensing operation, VBIAS is connected to an external bias voltage, so that at VSENSE = 0V, VOUT = VOUT(O) + VBIAS. For dual supply, bidirectional current sensing (See Datasheet)", 7 VS+ (in) "Positive Input Sense Terminal. Positive sense voltage will result in an output sourcing current proportional to the sense current. VS+ is connected to an internal gain-setting resistor RG2A. Connecting a supply to VS+ and a (See Datasheet)", 8 FIL+ "Negative and Positive Filter Terminals.Differential mode noise can be filtered by connecting a capacitor across FIL- and FIL+. Pole frequency f-3dB = 1/(2pRC), R = 1.25k ohm."

## LT1787CS8#TR
designator U?
Single Channel, Precision High Side Current Sense Amplifier, 0.115 MHz Typical GBW, 2.5 to 36 V, 8-Pin SOIC (S8-8), Commercial, Reel; Linear Technology Part Number: LT1787; Manufacturer: Linear Technology; PartNumber: LT1787CS8#TR; Channels (#): 1; GBW (MHz) Typical: 0.115; Is (mA) Typical: 0.06; Vos (mV) Guaranteed: 0.075; Vos (mV) Typical: 0.04; Vs Max (V): 36; Vs Min (V): 2.5; DatasheetVersion: Rev. C; PackageVersion: Rev G; PackageReference: LT-S8-8; PackageDescription: 8-Pin Plastic Small Outline, Body 4.9 x 3.9 mm, Pitch 1.27 mm; Supplier 1: Digi-Key; Supplier Part Number 1: LT1787CS8#TR-ND; Packing: Reel; Type: CSA; Mounting Technology: Surface Mount; ComponentLink1Description: Manufacturer URL; ComponentLink1URL: http://www.linear.com/; ComponentLink2Description: Datasheet; ComponentLink2URL: http://cds.linear.com/docs/en/datasheet/1787fc.pdf; ComponentLink3Description: Package Specification; ComponentLink3URL: http://cds.linear.com/docs/en/packaging/05081610_G_SO8.pdf
footprint LT-S8-8_N (SOIC, 8-Leads, Body 4.9x3.9mm, Pitch 1.27mm, IPC Medium Density)
footprint LT-S8-8_L (SOIC, 8-Leads, Body 4.9x3.9mm, Pitch 1.27mm, IPC High Density)
footprint LT-S8-8_M (SOIC, 8-Leads, Body 4.9x3.9mm, Pitch 1.27mm, IPC Low Density)
pins: 1 FIL- "Negative and Positive Filter Terminals.Differential mode noise can be filtered by connecting a capacitor across FIL- and FIL+. Pole frequency f-3dB = 1/(2pRC), R = 1.25k ohm.", 2 VS- (in) "Negative Input Sense Terminal. Negative sense voltage will result in an output sinking current proportional to the sense current. VS- is connected to an internal gain-setting resistor RG1A and supplies bias current to the (See Datasheet)", 3 DNC "Do Not Connect. Connected internally. Do not connect external circuitry to this pin.", 4 VEE (power) "Negative Supply or Ground for Single Supply Operation.", 5 VOUT (out) "Voltage Output or Current Output proportional to the magnitude of the sense current flowing through RSENSE. For bidirectional current sensing operation,VOUT = AV • VSENSE + VOUT(O) + VBIAS,where:VOUT > VBIAS for VS+ > VS- (See Datasheet)", 6 VBIAS "Output Bias Pin. For single supply, bidirectional current sensing operation, VBIAS is connected to an external bias voltage, so that at VSENSE = 0V, VOUT = VOUT(O) + VBIAS. For dual supply, bidirectional current sensing (See Datasheet)", 7 VS+ (in) "Positive Input Sense Terminal. Positive sense voltage will result in an output sourcing current proportional to the sense current. VS+ is connected to an internal gain-setting resistor RG2A. Connecting a supply to VS+ and a (See Datasheet)", 8 FIL+ "Negative and Positive Filter Terminals.Differential mode noise can be filtered by connecting a capacitor across FIL- and FIL+. Pole frequency f-3dB = 1/(2pRC), R = 1.25k ohm."

## LT1787CS8#TRPBF
designator U?
Single Channel, Precision High Side Current Sense Amplifier, 0.115 MHz Typical GBW, 2.5 to 36 V, 8-Pin SOIC (S8-8), Commercial, Pb-Free, Reel; Linear Technology Part Number: LT1787; Manufacturer: Linear Technology; PartNumber: LT1787CS8#TRPBF; Channels (#): 1; GBW (MHz) Typical: 0.115; Is (mA) Typical: 0.06; Vos (mV) Guaranteed: 0.075; Vos (mV) Typical: 0.04; Vs Max (V): 36; Vs Min (V): 2.5; DatasheetVersion: Rev. C; PackageVersion: Rev G; PackageReference: LT-S8-8; PackageDescription: 8-Pin Plastic Small Outline, Body 4.9 x 3.9 mm, Pitch 1.27 mm; Supplier 1: Digi-Key; Supplier Part Number 1: LT1787CS8#TRPBF-ND; Supplier 2: Newark; Supplier Part Number 2: 14N8611; Packing: Reel; RoHS: Pb-Free; Type: CSA; Mounting Technology: Surface Mount; ComponentLink1Description: Manufacturer URL; ComponentLink1URL: http://www.linear.com/; ComponentLink2Description: Datasheet; ComponentLink2URL: http://cds.linear.com/docs/en/datasheet/1787fc.pdf; ComponentLink3Description: Package Specification; ComponentLink3URL: http://cds.linear.com/docs/en/packaging/05081610_G_SO8.pdf
footprint LT-S8-8_N (SOIC, 8-Leads, Body 4.9x3.9mm, Pitch 1.27mm, IPC Medium Density)
footprint LT-S8-8_L (SOIC, 8-Leads, Body 4.9x3.9mm, Pitch 1.27mm, IPC High Density)
footprint LT-S8-8_M (SOIC, 8-Leads, Body 4.9x3.9mm, Pitch 1.27mm, IPC Low Density)
pins: 1 FIL- "Negative and Positive Filter Terminals.Differential mode noise can be filtered by connecting a capacitor across FIL- and FIL+. Pole frequency f-3dB = 1/(2pRC), R = 1.25k ohm.", 2 VS- (in) "Negative Input Sense Terminal. Negative sense voltage will result in an output sinking current proportional to the sense current. VS- is connected to an internal gain-setting resistor RG1A and supplies bias current to the (See Datasheet)", 3 DNC "Do Not Connect. Connected internally. Do not connect external circuitry to this pin.", 4 VEE (power) "Negative Supply or Ground for Single Supply Operation.", 5 VOUT (out) "Voltage Output or Current Output proportional to the magnitude of the sense current flowing through RSENSE. For bidirectional current sensing operation,VOUT = AV • VSENSE + VOUT(O) + VBIAS,where:VOUT > VBIAS for VS+ > VS- (See Datasheet)", 6 VBIAS "Output Bias Pin. For single supply, bidirectional current sensing operation, VBIAS is connected to an external bias voltage, so that at VSENSE = 0V, VOUT = VOUT(O) + VBIAS. For dual supply, bidirectional current sensing (See Datasheet)", 7 VS+ (in) "Positive Input Sense Terminal. Positive sense voltage will result in an output sourcing current proportional to the sense current. VS+ is connected to an internal gain-setting resistor RG2A. Connecting a supply to VS+ and a (See Datasheet)", 8 FIL+ "Negative and Positive Filter Terminals.Differential mode noise can be filtered by connecting a capacitor across FIL- and FIL+. Pole frequency f-3dB = 1/(2pRC), R = 1.25k ohm."

## LT1787HS8
designator U?
Single Channel, Precision High Side Current Sense Amplifier, 0.115 MHz Typical GBW, 2.5 to 36 V, 8-Pin SOIC (S8-8), High Temperature / Automotive; Linear Technology Part Number: LT1787; Manufacturer: Linear Technology; PartNumber: LT1787HS8; Channels (#): 1; GBW (MHz) Typical: 0.115; Is (mA) Typical: 0.06; Vos (mV) Guaranteed: 0.075; Vos (mV) Typical: 0.04; Vs Max (V): 36; Vs Min (V): 2.5; DatasheetVersion: Rev. C; PackageVersion: Rev G; PackageReference: LT-S8-8; PackageDescription: 8-Pin Plastic Small Outline, Body 4.9 x 3.9 mm, Pitch 1.27 mm; Supplier 1: Digi-Key; Supplier Part Number 1: LT1787HS8-ND; Supplier 2: Newark; Supplier Part Number 2: 57M6438; Type: CSA; Mounting Technology: Surface Mount; ComponentLink1Description: Manufacturer URL; ComponentLink1URL: http://www.linear.com/; ComponentLink2Description: Datasheet; ComponentLink2URL: http://cds.linear.com/docs/en/datasheet/1787fc.pdf; ComponentLink3Description: Package Specification; ComponentLink3URL: http://cds.linear.com/docs/en/packaging/05081610_G_SO8.pdf
footprint LT-S8-8_N (SOIC, 8-Leads, Body 4.9x3.9mm, Pitch 1.27mm, IPC Medium Density)
footprint LT-S8-8_L (SOIC, 8-Leads, Body 4.9x3.9mm, Pitch 1.27mm, IPC High Density)
footprint LT-S8-8_M (SOIC, 8-Leads, Body 4.9x3.9mm, Pitch 1.27mm, IPC Low Density)
pins: 1 FIL- "Negative and Positive Filter Terminals.Differential mode noise can be filtered by connecting a capacitor across FIL- and FIL+. Pole frequency f-3dB = 1/(2pRC), R = 1.25k ohm.", 2 VS- (in) "Negative Input Sense Terminal. Negative sense voltage will result in an output sinking current proportional to the sense current. VS- is connected to an internal gain-setting resistor RG1A and supplies bias current to the (See Datasheet)", 3 DNC "Do Not Connect. Connected internally. Do not connect external circuitry to this pin.", 4 VEE (power) "Negative Supply or Ground for Single Supply Operation.", 5 VOUT (out) "Voltage Output or Current Output proportional to the magnitude of the sense current flowing through RSENSE. For bidirectional current sensing operation,VOUT = AV • VSENSE + VOUT(O) + VBIAS,where:VOUT > VBIAS for VS+ > VS- (See Datasheet)", 6 VBIAS "Output Bias Pin. For single supply, bidirectional current sensing operation, VBIAS is connected to an external bias voltage, so that at VSENSE = 0V, VOUT = VOUT(O) + VBIAS. For dual supply, bidirectional current sensing (See Datasheet)", 7 VS+ (in) "Positive Input Sense Terminal. Positive sense voltage will result in an output sourcing current proportional to the sense current. VS+ is connected to an internal gain-setting resistor RG2A. Connecting a supply to VS+ and a (See Datasheet)", 8 FIL+ "Negative and Positive Filter Terminals.Differential mode noise can be filtered by connecting a capacitor across FIL- and FIL+. Pole frequency f-3dB = 1/(2pRC), R = 1.25k ohm."

## LT1787HS8#PBF
designator U?
Single Channel, Precision High Side Current Sense Amplifier, 0.115 MHz Typical GBW, 2.5 to 36 V, 8-Pin SOIC (S8-8), High Temperature / Automotive, Pb-Free; Linear Technology Part Number: LT1787; Manufacturer: Linear Technology; PartNumber: LT1787HS8#PBF; Channels (#): 1; GBW (MHz) Typical: 0.115; Is (mA) Typical: 0.06; Vos (mV) Guaranteed: 0.075; Vos (mV) Typical: 0.04; Vs Max (V): 36; Vs Min (V): 2.5; DatasheetVersion: Rev. C; PackageVersion: Rev G; PackageReference: LT-S8-8; PackageDescription: 8-Pin Plastic Small Outline, Body 4.9 x 3.9 mm, Pitch 1.27 mm; Supplier 1: Digi-Key; Supplier Part Number 1: LT1787HS8#PBF-ND; Supplier 2: Farnell; Supplier Part Number 2: 2254820; Supplier 3: Newark; Supplier Part Number 3: 57M6439; RoHS: Pb-Free; Type: CSA; Mounting Technology: Surface Mount; ComponentLink1Description: Manufacturer URL; ComponentLink1URL: http://www.linear.com/; ComponentLink2Description: Datasheet; ComponentLink2URL: http://cds.linear.com/docs/en/datasheet/1787fc.pdf; ComponentLink3Description: Package Specification; ComponentLink3URL: http://cds.linear.com/docs/en/packaging/05081610_G_SO8.pdf
footprint LT-S8-8_N (SOIC, 8-Leads, Body 4.9x3.9mm, Pitch 1.27mm, IPC Medium Density)
footprint LT-S8-8_L (SOIC, 8-Leads, Body 4.9x3.9mm, Pitch 1.27mm, IPC High Density)
footprint LT-S8-8_M (SOIC, 8-Leads, Body 4.9x3.9mm, Pitch 1.27mm, IPC Low Density)
pins: 1 FIL- "Negative and Positive Filter Terminals.Differential mode noise can be filtered by connecting a capacitor across FIL- and FIL+. Pole frequency f-3dB = 1/(2pRC), R = 1.25k ohm.", 2 VS- (in) "Negative Input Sense Terminal. Negative sense voltage will result in an output sinking current proportional to the sense current. VS- is connected to an internal gain-setting resistor RG1A and supplies bias current to the (See Datasheet)", 3 DNC "Do Not Connect. Connected internally. Do not connect external circuitry to this pin.", 4 VEE (power) "Negative Supply or Ground for Single Supply Operation.", 5 VOUT (out) "Voltage Output or Current Output proportional to the magnitude of the sense current flowing through RSENSE. For bidirectional current sensing operation,VOUT = AV • VSENSE + VOUT(O) + VBIAS,where:VOUT > VBIAS for VS+ > VS- (See Datasheet)", 6 VBIAS "Output Bias Pin. For single supply, bidirectional current sensing operation, VBIAS is connected to an external bias voltage, so that at VSENSE = 0V, VOUT = VOUT(O) + VBIAS. For dual supply, bidirectional current sensing (See Datasheet)", 7 VS+ (in) "Positive Input Sense Terminal. Positive sense voltage will result in an output sourcing current proportional to the sense current. VS+ is connected to an internal gain-setting resistor RG2A. Connecting a supply to VS+ and a (See Datasheet)", 8 FIL+ "Negative and Positive Filter Terminals.Differential mode noise can be filtered by connecting a capacitor across FIL- and FIL+. Pole frequency f-3dB = 1/(2pRC), R = 1.25k ohm."

## LT1787HS8#TR
designator U?
Single Channel, Precision High Side Current Sense Amplifier, 0.115 MHz Typical GBW, 2.5 to 36 V, 8-Pin SOIC (S8-8), High Temperature / Automotive, Reel; Linear Technology Part Number: LT1787; Manufacturer: Linear Technology; PartNumber: LT1787HS8#TR; Channels (#): 1; GBW (MHz) Typical: 0.115; Is (mA) Typical: 0.06; Vos (mV) Guaranteed: 0.075; Vos (mV) Typical: 0.04; Vs Max (V): 36; Vs Min (V): 2.5; DatasheetVersion: Rev. C; PackageVersion: Rev G; PackageReference: LT-S8-8; PackageDescription: 8-Pin Plastic Small Outline, Body 4.9 x 3.9 mm, Pitch 1.27 mm; Supplier 1: Digi-Key; Supplier Part Number 1: LT1787HS8TR-ND; Packing: Reel; Type: CSA; Mounting Technology: Surface Mount; ComponentLink1Description: Manufacturer URL; ComponentLink1URL: http://www.linear.com/; ComponentLink2Description: Datasheet; ComponentLink2URL: http://cds.linear.com/docs/en/datasheet/1787fc.pdf; ComponentLink3Description: Package Specification; ComponentLink3URL: http://cds.linear.com/docs/en/packaging/05081610_G_SO8.pdf
footprint LT-S8-8_N (SOIC, 8-Leads, Body 4.9x3.9mm, Pitch 1.27mm, IPC Medium Density)
footprint LT-S8-8_L (SOIC, 8-Leads, Body 4.9x3.9mm, Pitch 1.27mm, IPC High Density)
footprint LT-S8-8_M (SOIC, 8-Leads, Body 4.9x3.9mm, Pitch 1.27mm, IPC Low Density)
pins: 1 FIL- "Negative and Positive Filter Terminals.Differential mode noise can be filtered by connecting a capacitor across FIL- and FIL+. Pole frequency f-3dB = 1/(2pRC), R = 1.25k ohm.", 2 VS- (in) "Negative Input Sense Terminal. Negative sense voltage will result in an output sinking current proportional to the sense current. VS- is connected to an internal gain-setting resistor RG1A and supplies bias current to the (See Datasheet)", 3 DNC "Do Not Connect. Connected internally. Do not connect external circuitry to this pin.", 4 VEE (power) "Negative Supply or Ground for Single Supply Operation.", 5 VOUT (out) "Voltage Output or Current Output proportional to the magnitude of the sense current flowing through RSENSE. For bidirectional current sensing operation,VOUT = AV • VSENSE + VOUT(O) + VBIAS,where:VOUT > VBIAS for VS+ > VS- (See Datasheet)", 6 VBIAS "Output Bias Pin. For single supply, bidirectional current sensing operation, VBIAS is connected to an external bias voltage, so that at VSENSE = 0V, VOUT = VOUT(O) + VBIAS. For dual supply, bidirectional current sensing (See Datasheet)", 7 VS+ (in) "Positive Input Sense Terminal. Positive sense voltage will result in an output sourcing current proportional to the sense current. VS+ is connected to an internal gain-setting resistor RG2A. Connecting a supply to VS+ and a (See Datasheet)", 8 FIL+ "Negative and Positive Filter Terminals.Differential mode noise can be filtered by connecting a capacitor across FIL- and FIL+. Pole frequency f-3dB = 1/(2pRC), R = 1.25k ohm."

## LT1787HS8#TRPBF
designator U?
Single Channel, Precision High Side Current Sense Amplifier, 0.115 MHz Typical GBW, 2.5 to 36 V, 8-Pin SOIC (S8-8), High Temperature / Automotive, Pb-Free, Reel; Linear Technology Part Number: LT1787; Manufacturer: Linear Technology; PartNumber: LT1787HS8#TRPBF; Channels (#): 1; GBW (MHz) Typical: 0.115; Is (mA) Typical: 0.06; Vos (mV) Guaranteed: 0.075; Vos (mV) Typical: 0.04; Vs Max (V): 36; Vs Min (V): 2.5; DatasheetVersion: Rev. C; PackageVersion: Rev G; PackageReference: LT-S8-8; PackageDescription: 8-Pin Plastic Small Outline, Body 4.9 x 3.9 mm, Pitch 1.27 mm; Supplier 1: Digi-Key; Supplier Part Number 1: LT1787HS8#TRPBF-ND; Supplier 2: Newark; Supplier Part Number 2: 14N8612; Supplier 3: Newark; Supplier Part Number 3: 57M6441; Packing: Reel; RoHS: Pb-Free; Type: CSA; Mounting Technology: Surface Mount; ComponentLink1Description: Manufacturer URL; ComponentLink1URL: http://www.linear.com/; ComponentLink2Description: Datasheet; ComponentLink2URL: http://cds.linear.com/docs/en/datasheet/1787fc.pdf; ComponentLink3Description: Package Specification; ComponentLink3URL: http://cds.linear.com/docs/en/packaging/05081610_G_SO8.pdf
footprint LT-S8-8_N (SOIC, 8-Leads, Body 4.9x3.9mm, Pitch 1.27mm, IPC Medium Density)
footprint LT-S8-8_L (SOIC, 8-Leads, Body 4.9x3.9mm, Pitch 1.27mm, IPC High Density)
footprint LT-S8-8_M (SOIC, 8-Leads, Body 4.9x3.9mm, Pitch 1.27mm, IPC Low Density)
pins: 1 FIL- "Negative and Positive Filter Terminals.Differential mode noise can be filtered by connecting a capacitor across FIL- and FIL+. Pole frequency f-3dB = 1/(2pRC), R = 1.25k ohm.", 2 VS- (in) "Negative Input Sense Terminal. Negative sense voltage will result in an output sinking current proportional to the sense current. VS- is connected to an internal gain-setting resistor RG1A and supplies bias current to the (See Datasheet)", 3 DNC "Do Not Connect. Connected internally. Do not connect external circuitry to this pin.", 4 VEE (power) "Negative Supply or Ground for Single Supply Operation.", 5 VOUT (out) "Voltage Output or Current Output proportional to the magnitude of the sense current flowing through RSENSE. For bidirectional current sensing operation,VOUT = AV • VSENSE + VOUT(O) + VBIAS,where:VOUT > VBIAS for VS+ > VS- (See Datasheet)", 6 VBIAS "Output Bias Pin. For single supply, bidirectional current sensing operation, VBIAS is connected to an external bias voltage, so that at VSENSE = 0V, VOUT = VOUT(O) + VBIAS. For dual supply, bidirectional current sensing (See Datasheet)", 7 VS+ (in) "Positive Input Sense Terminal. Positive sense voltage will result in an output sourcing current proportional to the sense current. VS+ is connected to an internal gain-setting resistor RG2A. Connecting a supply to VS+ and a (See Datasheet)", 8 FIL+ "Negative and Positive Filter Terminals.Differential mode noise can be filtered by connecting a capacitor across FIL- and FIL+. Pole frequency f-3dB = 1/(2pRC), R = 1.25k ohm."